# EAGLE library part IS42S16100B (library memory)
512K Words x 16 Bits x 2 Banks (16-MBIT) SYNCHRONOUS DYNAMIC RAM Source: www.issi.com .. IS42S16100.pdf
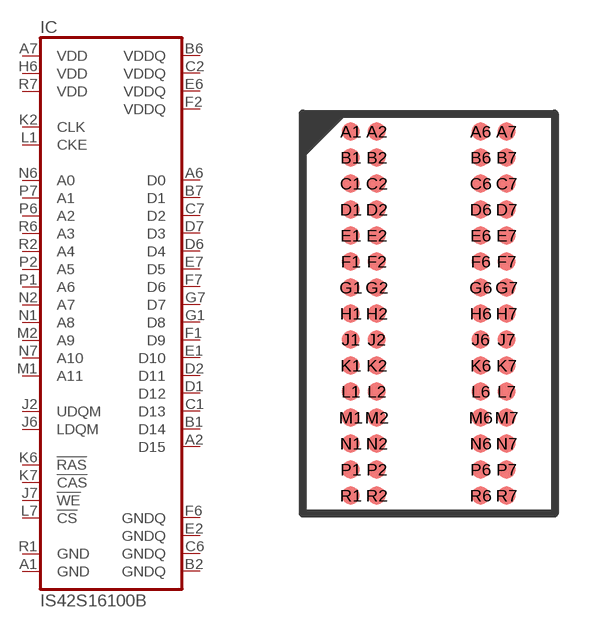
[diagram p69: symbol with the pads of MBGA60; footprint MBGA60]

Designator prefix IC

## IS42S16100B  [MBGA60]
A1  GND  pwr
A2  D15
A6  D0
A7  VDD  pwr
B1  D14
B2  GNDQ  pwr
B6  VDDQ  pwr
B7  D1
C1  D13
C2  VDDQ  pwr
C6  GNDQ  pwr
C7  D2
D1  D12
D2  D11
D6  D4
D7  D3
E1  D10
E2  GNDQ  pwr
E6  VDDQ  pwr
E7  D5
F1  D9
F2  VDDQ  pwr
F6  GNDQ  pwr
F7  D6
G1  D8
G7  D7
H6  VDD  pwr
J2  UDQM  in
J6  LDQM  in
J7  !WE  in
K2  CLK  in
K6  !RAS  in
K7  !CAS  in
L1  CKE  in
L7  !CS  in
M1  A11  in
M2  A9  in
N1  A8  in
N2  A7  in
N6  A0  in
N7  A10  in
P1  A6  in
P2  A5  in
P6  A2  in
P7  A1  in
R1  GND  pwr
R2  A4  in
R6  A3  in
R7  VDD  pwr

## Footprint MBGA60 (pad centres in mm)
Mimi Ball Grid Array mBGA - 10.1 x 6.4 mm Package Code: B (60 Ball) Source: www.issi.com .. IS42S16100.pdf
smd 0.45 x 0.45: A1 -1.95,4.55; A2 -1.3,4.55; A6 1.3,4.55; A7 1.95,4.55; B1 -1.95,3.9; B2 -1.3,3.9; B6 1.3,3.9; B7 1.95,3.9; C1 -1.95,3.25; C2 -1.3,3.25; C6 1.3,3.25; C7 1.95,3.25; D1 -1.95,2.6; D2 -1.3,2.6; D6 1.3,2.6; D7 1.95,2.6; E1 -1.95,1.95; E2 -1.3,1.95; E6 1.3,1.95; E7 1.95,1.95; F1 -1.95,1.3; F2 -1.3,1.3; F6 1.3,1.3; F7 1.95,1.3; G1 -1.95,0.65; G2 -1.3,0.65; G6 1.3,0.65; G7 1.95,0.65; H1 -1.95,0; H2 -1.3,0; H6 1.3,0; H7 1.95,0; J1 -1.95,-0.65; J2 -1.3,-0.65; J6 1.3,-0.65; J7 1.95,-0.65; K1 -1.95,-1.3; K2 -1.3,-1.3; K6 1.3,-1.3; K7 1.95,-1.3; L1 -1.95,-1.95; L2 -1.3,-1.95; L6 1.3,-1.95; L7 1.95,-1.95; M1 -1.95,-2.6; M2 -1.3,-2.6; M6 1.3,-2.6; M7 1.95,-2.6; N1 -1.95,-3.25; N2 -1.3,-3.25; N6 1.3,-3.25; N7 1.95,-3.25; P1 -1.95,-3.9; P2 -1.3,-3.9; P6 1.3,-3.9; P7 1.95,-3.9; R1 -1.95,-4.55; R2 -1.3,-4.55; R6 1.3,-4.55; R7 1.95,-4.55